# EAGLE library part 3220-20-0200-00 (library 3220-20-0200-00)
Connector Header Through Hole, Right Angle 20 position 0.050" (1.27mm) Source: Datasheet <https://www.arrow.com/en/products/3220-20-0200-00/cnc-tech-llc?region=nac>
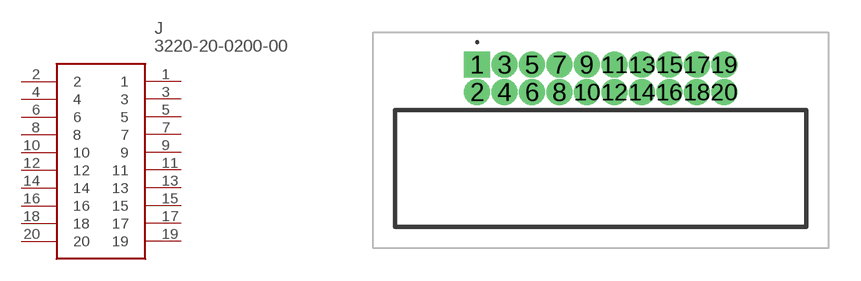
[diagram p0: symbol with the pads of 322020020000; footprint 322020020000]

Designator prefix J

## 3220-20-0200-00 (Arrow_Part_Number: 3220-20-0200-00; Arrow_Price-Stock: https://www.arrow.com/en/products/3220-20-0200-00/cnc-tech-llc?region=nac; Description: Connector Header Through Hole, Right Angle 20 position 0.050" (1.27mm); Height: 5.35mm; Manufacturer_Name: CNC Tech; Manufacturer_Part_Number: 3220-20-0200-00)  [322020020000]
1  1
2  2
3  3
4  4
5  5
6  6
7  7
8  8
9  9
10  10
11  11
12  12
13  13
14  14
15  15
16  16
17  17
18  18
19  19
20  20

## Footprint 322020020000 (pad centres in mm)
3220-20-0200-00-3
drill 0.7 pad 1 square: 1 0,0
drill 0.7 pad 1: 2 0,-1.27; 3 1.27,0; 4 1.27,-1.27; 5 2.54,0; 6 2.54,-1.27; 7 3.81,0; 8 3.81,-1.27; 9 5.08,0; 10 5.08,-1.27; 11 6.35,0; 12 6.35,-1.27; 13 7.62,0; 14 7.62,-1.27; 15 8.89,0; 16 8.89,-1.27; 17 10.16,0; 18 10.16,-1.27; 19 11.43,0; 20 11.43,-1.27